# EAGLE library part MICRO_MATE-N-LOK_6 (library con-tyco-micro-mate-n-lok-old)
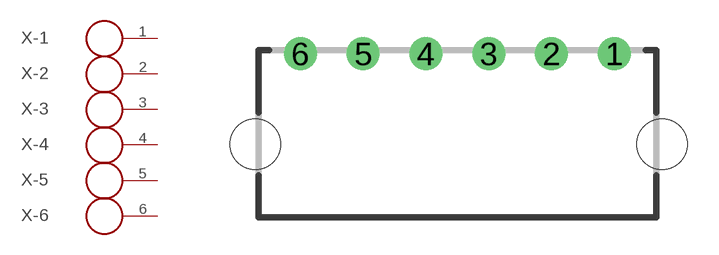
[diagram p1: symbol with the pads of MICRO_MATE-N-LOCK_6_THROUGH_HORIZONTAL; footprint MICRO_MATE-N-LOCK_6_THROUGH_HORIZONTAL]

Designator prefix X; gates -1=POLE -2=POLE -3=POLE -4=POLE -5=POLE -6=POLE

## MICRO_MATE-N-LOK_6  [MICRO_MATE-N-LOCK_6_THROUGH_HORIZONTAL]
1  -1:P$1
2  -2:P$1
3  -3:P$1
4  -4:P$1
5  -5:P$1
6  -6:P$1

## Footprint MICRO_MATE-N-LOCK_6_THROUGH_HORIZONTAL (pad centres in mm)
drill 1.05: 1 15,4.32; 2 12,4.32; 3 9,4.32; 4 6,4.32; 5 3,4.32; 6 0,4.32
hole 2.4 at -2.15,0
hole 2.4 at 17.28,0